# Altium schematic symbol library STM-LIS2HH12-LGA-12.SchLib: 1 symbol
Pins are listed as number, name and electrical type; pins without a type are passive.

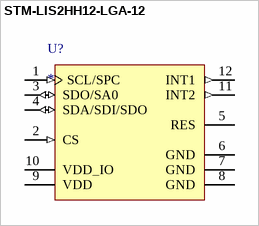
[diagram p0: symbol STM-LIS2HH12-LGA-12]

## STM-LIS2HH12-LGA-12
designator U?
pins: 1 SCL/SPC (in), 2 CS (in) "SPI enable I2C/SPI mode selection (1: SPI idle mode / I2C communication enabled; 0: SPI communication mode / I2C disabled)", 3 SDO/SA0 (io), 4 SDA/SDI/SDO (io), 5 RES "Connect to GND", 6 GND (power) "0 V supply", 7 GND (power) "0 V supply", 8 GND (power) "0 V supply", 9 VDD (power) "Power supply", 10 VDD_IO (power) "Power supply for I/O pins", 11 INT2 (out) "Interrupt pin 2", 12 INT1 (out) "Interrupt pin 1"